# Altium schematic symbol library ESDARF02-1BU2CK.SchLib: 1 symbol
Pins are listed as number, name and electrical type; pins without a type are passive.

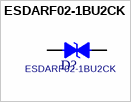
[diagram p0: symbol ESDARF02-1BU2CK]

## ESDARF02-1BU2CK
designator D?
footprint ST_0201B
pins: 1, 2